# Altium schematic symbol library ESP32_TypeC_30P.SchLib: 1 symbol
Pins are listed as number, name and electrical type; pins without a type are passive.

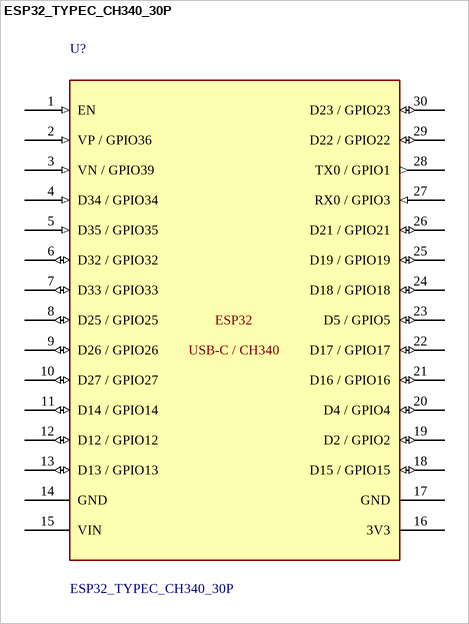
[diagram p0: symbol ESP32_TYPEC_CH340_30P]

## ESP32_TYPEC_CH340_30P
designator U?
ESP32 development board, USB Type-C, CH340, 30 pins. Pinout from supplied board photograph.; Pitch_mm: 2.54; RowSpacing_mm: 25.40; GeometrySource: User-supplied FreeCAD model; not measured hardware; PinCount: 30
footprint ESP32_TYPEC_CH340_30P_P254_W2540 (2x15 TH, 2.54 mm pitch, 25.40 mm row spacing)
pins: 1 EN (in), 2 VP / GPIO36 (in), 3 VN / GPIO39 (in), 4 D34 / GPIO34 (in), 5 D35 / GPIO35 (in), 6 D32 / GPIO32 (io), 7 D33 / GPIO33 (io), 8 D25 / GPIO25 (io), 9 D26 / GPIO26 (io), 10 D27 / GPIO27 (io), 11 D14 / GPIO14 (io), 12 D12 / GPIO12 (io), 13 D13 / GPIO13 (io), 14 GND (power), 15 VIN (power), 16 3V3 (power), 17 GND (power), 18 D15 / GPIO15 (io), 19 D2 / GPIO2 (io), 20 D4 / GPIO4 (io), 21 D16 / GPIO16 (io), 22 D17 / GPIO17 (io), 23 D5 / GPIO5 (io), 24 D18 / GPIO18 (io), 25 D19 / GPIO19 (io), 26 D21 / GPIO21 (io), 27 RX0 / GPIO3 (in), 28 TX0 / GPIO1 (out), 29 D22 / GPIO22 (io), 30 D23 / GPIO23 (io)
text: ESP32; USB-C / CH340